# Altium schematic symbol library CUSTOM TNY290PG.SchLib: 175 symbols (part 1 of 3)
Pins are listed as number, name and electrical type; pins without a type are passive.

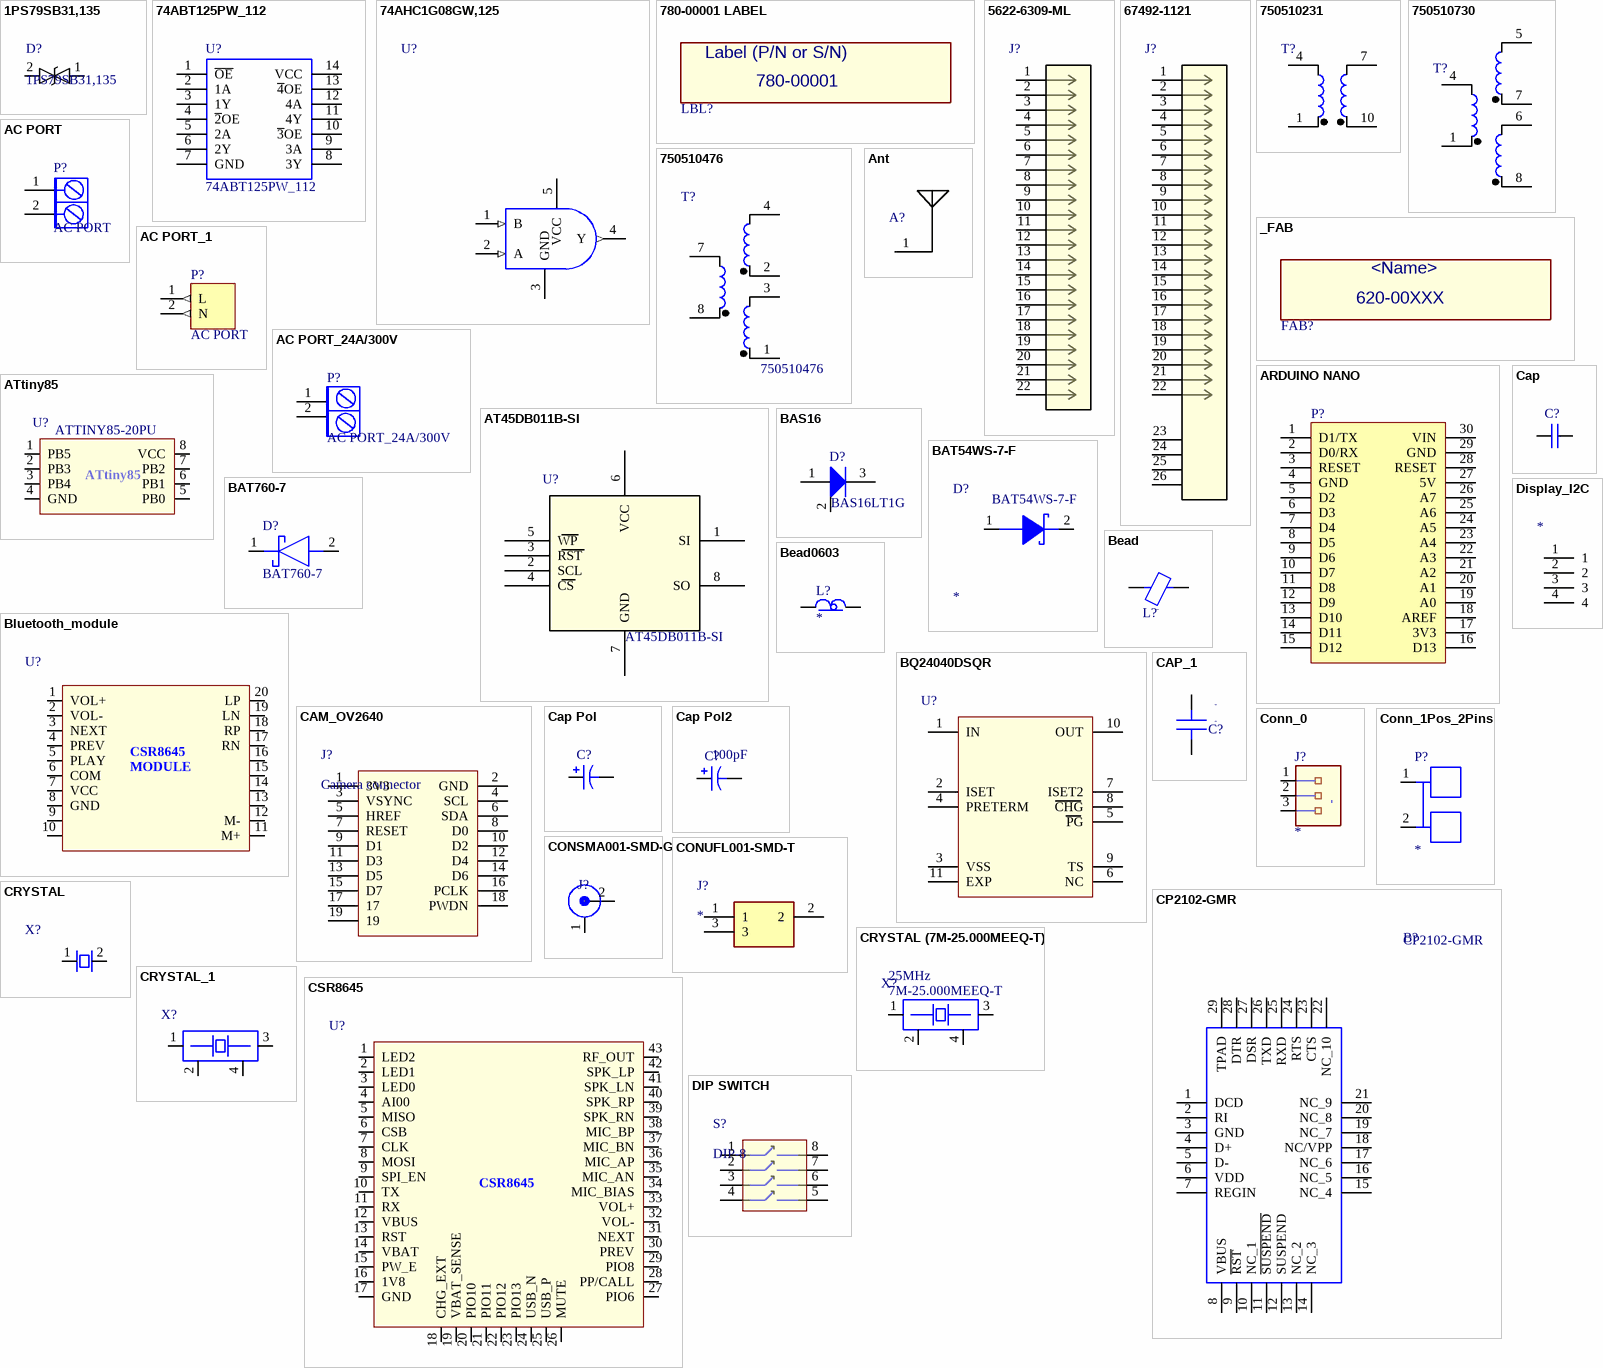
[diagram p0: symbols 1PS79SB31,135 to Display_I2C]

## 1PS79SB31,135
designator D?
Diode Schottky 30V 0.2A 2-Pin SOD-523 T/R; MF: Nexperia; MP: 1PS79SB31,135; SnapEDA_Link: https://www.snapeda.com/parts/1PS79SB31%2C135/Nexperia%20USA%20Inc./view-part/?ref=snap; Package: SOD-523 NXP Semiconductors; Digi-Key_Part_Number: 1PS79SB31,135-ND; Digi-Key_Purchase_URL: https://www.digikey.in/product-detail/en/nexperia-usa-inc/1PS79SB31,135/1PS79SB31,135-ND/1229079?utm_source=snapeda&utm_medium=aggregator&utm_campaign=symbol; Value: *
footprint SOD523
pins: 1 K, 2 A

## 74ABT125PW_112
designator U?
Buffers & Line Drivers QUAD BUFFER 3-S; Manufacturer_Name: Nexperia; Manufacturer_Part_Number: 74ABT125PW,112; Geometry.Height: 1.1mm; RS Part Number: *; RS Price/Stock: *; Mouser Part Number: 771-ABT125PW112; Mouser Price/Stock: https://www.mouser.com/Search/Refine.aspx?Keyword=771-ABT125PW112; Datasheet Link: https://assets.nexperia.com/documents/data-sheet/74ABT125.pdf
footprint 74ABT125PW
pins: 1 ~{OE}, 2 1A, 3 1Y, 4 ~{2}OE, 5 2A, 6 2Y, 7 GND, 8 3Y, 9 3A, 10 ~{3}OE, 11 4Y, 12 4A, 13 ~{4}OE, 14 VCC

## 74AHC1G08GW,125
designator U?  (value not drawn)
Logic IC - Gate NXP Semiconductors 74AHC1G08GW, 125 AND gate 74AHC TSSOP 5; Manufacturer: Nexperia; Supplier 1: Digi-Key; Manufacturer Part Number: 74AHC1G08GW,125; Stock 1: 41783; Pricing 1: 1=0.27, 10=0.223, 25=0.1872, 100=0.1184, 250=0.0914, 500=0.0779, 1000=0.053 (USD); Case/Package: SOT-353; Supplier Part Number 1: 1727-3148-1-ND
footprint SOT353
pins: 1 B (in), 2 A (in), 3 GND, 4 Y (out), 5 VCC (power)

## 780-00001 LABEL
designator LBL?, comment Label (P/N or S/N)  PartNumber: 780-00001
Label, blank, 1.25" x .25", High Temp Rated; Device: 780-00001

## 5622-6309-ML
designator J?
SATA CONNECTOR, PLUG, 22 POSITION, Connector Type:SATA; Gender:Male; Manufacturer 1: 3M; Manufacturer Part Number 1: 5622-6309-ML; Gender: Male; Max Current Rating: 1.5A; Number of Positions: 22; Insulation Resistance: 1GR; Number of Ports: 1; Connector Type: Plug,SATA; Pitch: 1.27mm; ComponentLink1URL: https://datasheet.ciiva.com/16651/0674921121-pcb-receptacles-16651858.pdf?src-supplier=Avnet+Europe; ComponentLink1Description: https://datasheet.ciiva.com/16651/0674921121-pcb-receptacles-16651858.pdf?src-supplier=Avnet+Europe; Supplier 1: Digi-Key; RoHS: Yes; Category: Connectors; Stock 1: 5747; Pricing 1: 1=2.88000, 10=2.76500, 25=2.53440, 50=2.41920, 100=2.30400, 250=2.01600, 500=1.95840, 1000=1.67040, 2500=1.55520 (USD); Mount: Straddle Mount,Edge; Housing Material: Thermoplastic; Contact Plating: Gold; Contact Material: Copper Alloy; Color: Black; Number of Terminals: 22; Housing Color: Black; Min Operating Temperature: -40°C; Max Operating Temperature: 85°C; Packaging: Tray; Termination: Solder; Orientation: Straight; Package Quantity: 1944; Current Rating: 1.5A; Number of Rows: 1; Number of Contacts: 22; Length: 45.77mm; Depth: 12mm; Flammability Rating: UL94 V-0; REACH SVHC: No SVHC; Lead Free: Lead Free; ComponentLink2URL: https://datasheet.ciiva.com/25617/0900766b80934e8c-25617710.pdf?src-supplier=RSComponents; ComponentLink2Description: https://datasheet.ciiva.com/25617/0900766b80934e8c-25617710.pdf?src-supplier=RSComponents; ComponentLink3URL: https://datasheet.ciiva.com/689/cd2109-689552.pdf?src-supplier=Digi-Key; ComponentLink3Description: https://datasheet.ciiva.com/689/cd2109-689552.pdf?src-supplier=Digi-Key; ComponentLink4URL: https://datasheet.ciiva.com/3955/mediawebserver3-3955586.pdf?src-supplier=Arrow; ComponentLink4Description: https://datasheet.ciiva.com/3955/mediawebserver3-3955586.pdf?src-supplier=Arrow; ComponentLink5URL: https://datasheet.ciiva.com/4570/cd2109-4570023.pdf?src-supplier=Mouser; ComponentLink5Description: https://datasheet.ciiva.com/4570/cd2109-4570023.pdf?src-supplier=Mouser; ComponentLink6URL: https://datasheet.ciiva.com/8015/cd2109-8015174.pdf?src-supplier=Element14; ComponentLink6Description: https://datasheet.ciiva.com/8015/cd2109-8015174.pdf?src-supplier=Element14; Supplier Part Number 1: 3M5555-ND
footprint 5622-6309-ML
pins: 1, 2, 3, 4, 5, 6, 7, 8, 9, 10, 11, 12, 13, 14, 15, 16, 17, 18, 19, 20, 21, 22

## 67492-1121
designator J?
Conn SATA RCP 15Power/7Signal POS 1.27mm Solder RA SMD 22 Terminal 1 Port Tray; Manufacturer 1: Molex; Manufacturer Part Number 1: 67492-1121; Connector Type: SMD/SMT; Number of Positions: 22; Max Voltage Rating (DC): 15V; Current Rating: 1.5A; Gender: Female; Glow Wire Compliant: Non-compliant; Supplier 1: Mouser; RoHS: Yes; Category: Headers and Wire Housings; Stock 1: 83; Pricing 1: 1=3.18000, 10=3.05000, 25=2.67000, 100=2.54000, 250=2.22000, 500=2.16000, 1000=1.84000, 2500=1.71000, 5000=1.65000 (USD); Mount: Surface Mount; Case/Package: SMD/SMT; Housing Material: Thermoplastic; Contact Plating: Gold; Contact Material: Copper Alloy; Color: Black; Min Operating Temperature: -35°C; Max Operating Temperature: 85°C; Termination: Solder; Orientation: Right Angle; Package Quantity: 840; Packaging: Tray; Number of Rows: 1; Number of Circuits: 22; Voltage Rating (DC): 15V; Pitch: 1.27mm; Radiation Hardening: No; ComponentLink1URL: https://datasheet.ciiva.com/16651/0674921121-pcb-receptacles-16651858.pdf?src-supplier=Avnet+Europe; ComponentLink1Description: https://datasheet.ciiva.com/16651/0674921121-pcb-receptacles-16651858.pdf?src-supplier=Avnet+Europe; Supplier Part Number 1: 538-67492-1121
footprint 67492-1121
pins: 1, 2, 3, 4, 5, 6, 7, 8, 9, 10, 11, 12, 13, 14, 15, 16, 17, 18, 19, 20, 21, 22, 23, 24, 25, 26

## 750510231
designator T?  (value not drawn)
Manufacturer: Wurth Electronics; Manufacturer Part Number: 750510231; Supplier 1: Mouser; Stock 1: 346; Pricing 1: 1=3.43, 10=3.21, 50=2.89, 100=2.66, 250=2.39, 500=2.15, 1000=2.15, 10000=2.15 (USD); Packaging: Tray; Package Quantity: 650; ComponentLink1URL: http://www.mouser.com/ds/2/445/750510231-465484.pdf?src-supplier=Mouser; ComponentLink1Description: http://www.mouser.com/ds/2/445/750510231-465484.pdf?src-supplier=Mouser; Supplier Part Number 1: 710-750510231
footprint L14_W14_H13.46
pins: 1 5, 4, 7 5, 10 6

## 750510476
designator T?  Manufacturer Part Number: 750510476  (hidden comment: *)
Manufacturer: Wurth Electronics; Shielding: Unshielded; Inductance: 870uH; DC Resistance (DCR): 85mR; Supplier 1: Digi-Key; Stock 1: 881; Pricing 1: 1=5.86, 10=5.782, 50=5.421, 100=4.879, 500=4.337 (USD); Mount: Through Hole; Min Operating Temperature: -40°C; Max Operating Temperature: 125°C; Packaging: Tray; Termination: Pin; Length: 19.8mm; Height: 10.16mm; Width: 19.69mm; Height - Seated (Max): 10.16mm; ComponentLink1URL: http://www.mouser.com/ds/2/445/750510476-265876.pdf?src-supplier=Mouser; ComponentLink1Description: http://www.mouser.com/ds/2/445/750510476-265876.pdf?src-supplier=Mouser; ComponentLink2URL: http://katalog.we-online.de/pbs/datasheet/750510476.pdf?src-supplier=Digi-Key; ComponentLink2Description: http://katalog.we-online.de/pbs/datasheet/750510476.pdf?src-supplier=Digi-Key; Supplier Part Number 1: 1297-1074-ND
footprint L13.72_W19.8_H10.16
pins: 1, 2, 3, 4, 7, 8

## 750510730
designator T?  (value not drawn)
Manufacturer: Wurth Electronics Midcom; Manufacturer Part Number: 750510730; Inductance: 1uH; Turns Ratio: 1:1; Supplier 1: Digi-Key; Stock 1: 0; Pricing 1: 140=3.696, 280=3.36 (USD); Mount: Surface Mount; Packaging: Tape and Reel; ComponentLink1URL: https://katalog.we-online.de/ctm/datasheet/750510730.pdf?src-supplier=Digi-Key; ComponentLink1Description: https://katalog.we-online.de/ctm/datasheet/750510730.pdf?src-supplier=Digi-Key; Supplier Part Number 1: 1297-1203-2-ND
footprint L13.97_W15.4_H13.2
pins: 1 5, 4, 5, 6, 7, 8 6

## _FAB
designator FAB?, comment <Name>  PartNumber: 620-00XXX

## AC PORT
designator P?
Header, 2-Pin; Manufacturer Part Number: Screw Terminal; Value: 2 PIN; Case/Package: 5mm PITCH TH
footprint HDR1X2 (Connector; Header; 2 Position)
signal-integrity model Connector
pins: 1 L, 2 N

## AC PORT_1
designator P?, comment AC PORT
Header, 2-Pin; LatestRevisionDate: 17-Jul-2002; LatestRevisionNote: Re-released for DXP Platform.; Publisher: Altium Limited
footprint HDR1X2 (Connector; Header; 2 Position)
signal-integrity model Connector
pins: 1 L (out), 2 N (out)

## AC PORT_24A/300V
designator P?
Header, 2-Pin; LatestRevisionDate: 17-Jul-2002; LatestRevisionNote: Re-released for DXP Platform.; Publisher: Altium Limited
footprint AC PORT 24a/300V (Connector; Header; 2 Position)
pins: 1, 2

## Ant
designator A?  (value not drawn)
footprint ant
pins: 1 Ant

## ARDUINO NANO
designator P?
Header, 15-Pin, Dual row; Manufacturer: Seeed Studio; Manufacturer Part Number: 102010019; Evaluation Kit: Yes; Core Architecture: AVR; Supplier 1: Digi-Key; Stock 1: 0; Supplier Part Number 1: 102010019-ND
signal-integrity model Connector
footprint ARDUINO NANO (Connector; Header; 15x2 Position)
pins: 1 D1/TX, 2 D0/RX, 3 RESET, 4 GND, 5 D2, 6 D3, 7 D4, 8 D5, 9 D6, 10 D7, 11 D8, 12 D9, 13 D10, 14 D11, 15 D12, 16 D13, 17 3V3, 18 AREF, 19 A0, 20 A1, 21 A2, 22 A3, 23 A4, 24 A5, 25 A6, 26 A7, 27 5V, 28 RESET, 29 GND, 30 VIN

## AT45DB011B-SI
designator U?  Manufacturer Part Number: AT45DB011B-SI
IC FLASH 1M SPI 20MHZ 8SOIC; Manufacturer: Microchip / Atmel; Interface: SPI,Serial; Max Supply Voltage: 3.6V; Min Supply Voltage: 2.7V; Access Time: 7ns; Memory Type: NOR,FLASH,DataFLASH; Memory Size: 264B; Data Bus Width: 8b; Supplier 1: Digi-Key; Stock 1: 0; Case/Package: 8-SOIC; Number of Pins: 8; Min Operating Temperature: -40°C; Max Operating Temperature: 85°C; Package Quantity: 95; Packaging: Rail/Tube; Frequency: 20MHz; Max Frequency: 20MHz; Lead Free: Contains Lead; Supplier Part Number 1: AT45DB011B-SI-ND
footprint 8-soic
pins: 1 SI, 2 SCL, 3 RST, 4 CS, 5 WP, 6 VCC (power), 7 GND (power), 8 SO

## ATtiny85
designator U?  Manufacturer Part Number: ATTINY85-20PU
MCU 8-bit ATtiny AVR RISC 8KB Flash 3.3V/5V 8-Pin PDIP W; Manufacturer 1: Microchip / Atmel; Number of I/Os: 6; Frequency: 20MHz; Oscillator Type: Internal; Peripherals: Brown-out Detect/Reset,POR,PWM,WDT; Data Bus Width: 8b; Min Supply Voltage: 2.7V; Max Supply Voltage: 5.5V; RAM Size: 512B; Number of Timers/Counters: 2; Interface: SPI; Watchdog Timer: Yes; Number of ADC Channels: 4; Number of SPI Channels: 1; Access Time: 20us; Supplier 1: Digi-Key; RoHS: Yes; Category: Microcontrollers; Stock 1: 6190; Pricing 1: 1=1.20000, 25=1.10000, 100=1.00000 (USD); Mount: Through Hole; Case/Package: DIP-8; Number of Pins: 8; Contact Plating: Tin,Matte; Min Operating Temperature: -40°C; Max Operating Temperature: 85°C; Packaging: Rail/Tube; Memory Type: FLASH; Memory Size: 8KB; Core Architecture: AVR; Package Quantity: 50; Max Frequency: 20MHz; Number of Programmable I/O: 6; Number of PWM Channels: 6; Number of I2C Channels: 1; Number of UART Channels: 1; Termination: Through Hole; Length: 10.16mm; Height: 0.195inch; Width: 0.28inch; Radiation Hardening: No; Lead Free: Lead Free; REACH SVHC: No SVHC; ComponentLink1URL: https://datasheet.ciiva.com/28653/1693899-28653824.pdf?src-supplier=Element14; ComponentLink1Description: https://datasheet.ciiva.com/28653/1693899-28653824.pdf?src-supplier=Element14; ComponentLink2URL: https://datasheet.ciiva.com/20168/73-5122-20168321.pdf?src-supplier=Rapid+Electronics; ComponentLink2Description: https://datasheet.ciiva.com/20168/73-5122-20168321.pdf?src-supplier=Rapid+Electronics; ComponentLink3URL: https://datasheet.ciiva.com/19457/2151312-19457156.pdf?src-supplier=Jameco; ComponentLink3Description: https://datasheet.ciiva.com/19457/2151312-19457156.pdf?src-supplier=Jameco; ComponentLink4URL: https://datasheet.ciiva.com/15213/getdatasheetpartid-226075-15213319.pdf?src-supplier=Verical; ComponentLink4Description: https://datasheet.ciiva.com/15213/getdatasheetpartid-226075-15213319.pdf?src-supplier=Verical; ComponentLink5URL: https://datasheet.ciiva.com/3203/doc2586-3203149.pdf?src-supplier=Avnet; ComponentLink5Description: https://datasheet.ciiva.com/3203/doc2586-3203149.pdf?src-supplier=Avnet; Supplier Part Number 1: ATTINY85-20PU-ND
footprint DIP-8 (DIP; 8 Leads; Row Spacing 7.62 mm; Pitch 2.54 mm)
pins: 1 PB5, 2 PB3, 3 PB4, 4 GND, 5 PB0, 6 PB1, 7 PB2, 8 VCC

## BAS16
designator D?  Manufacturer Part Number: BAS16LT1G
Manufacturer: ON Semiconductor; Forward Current: 200mA; Peak Reverse Current: 1uA; Max Surge Current: 500mA; Recovery Time: 6ns; Forward Voltage: 1.25V; Max Repetitive Reverse Voltage (Vrrm): 75V; Power Dissipation: 300mW; Element Configuration: Single; Polarity: Standard; Capacitance: 2pF; ComponentLink1Description: Manufacturer Link; ComponentLink1URL: http://www.fairchildsemi.com/; ComponentLink2Description: Datasheet; ComponentLink2URL: http://www.fairchildsemi.com/ds/1N%2F1N4001.pdf; Supplier 1: Digi-Key; Stock 1: 1889118; Pricing 1: 1=0.11, 10=0.1, 100=0.0545, 500=0.0335, 1000=0.0229 (USD); Case/Package: SOT-23-3; Number of Pins: 3; Contact Plating: Tin,Matte; Min Operating Temperature: -55°C; Max Operating Temperature: 150°C; Package Quantity: 1; Packaging: Tape and Reel; Max Reverse Leakage Current: 1uA; Average Rectified Current: 200mA; Reverse Recovery Time: 6ns; Max Reverse Voltage (DC): 75V; Peak Non-Repetitive Surge Current: 500mA; Max Forward Surge Current (Ifsm): 500mA; Voltage Rating (DC): 75V; Current Rating: 200mA; Output Current: 200mA; Length: 0.119inch; Height: 0.04inch; Width: 0.055inch; Radiation Hardening: No; Lead Free: Lead Free; Halogen Free: Halogen Free; REACH SVHC: No SVHC; ComponentLink3URL: http://www.mouser.com/ds/2/308/BAS16LT1-D-103448.pdf?src-supplier=Mouser; ComponentLink3Description: http://www.mouser.com/ds/2/308/BAS16LT1-D-103448.pdf?src-supplier=Mouser; ComponentLink4URL: http://www.onsemi.com/pub/Collateral/BAS16LT1-D.PDF?src-supplier=Digi-Key; ComponentLink4Description: http://www.onsemi.com/pub/Collateral/BAS16LT1-D.PDF?src-supplier=Digi-Key; ComponentLink5URL: http://www.farnell.com/datasheets/1910407.pdf?src-supplier=Element14; ComponentLink5Description: http://www.farnell.com/datasheets/1910407.pdf?src-supplier=Element14; ComponentLink6URL: http://www.onsemi.com/pub/Collateral/BAS16LT1-D.PDF?src-supplier=Avnet; ComponentLink6Description: http://www.onsemi.com/pub/Collateral/BAS16LT1-D.PDF?src-supplier=Avnet; ComponentLink7URL: http://www.onsemi.com/pub/Collateral/BAS16LT1-D.PDF?src-supplier=Future+Electronics; ComponentLink7Description: http://www.onsemi.com/pub/Collateral/BAS16LT1-D.PDF?src-supplier=Future+Electronics; ComponentLink8URL: http://www.farnell.com/datasheets/1708231.pdf?src-supplier=Element14; ComponentLink8Description: http://www.farnell.com/datasheets/1708231.pdf?src-supplier=Element14; ComponentLink9URL: http://www.onsemi.com/pub/Collateral/BAS16LT1-D.PDF?src-supplier=Avnet+Europe; ComponentLink9Description: http://www.onsemi.com/pub/Collateral/BAS16LT1-D.PDF?src-supplier=Avnet+Europe; Supplier Part Number 1: BAS16LT1GOSCT-ND
simulation model 1N4001 (DIODE)
signal-integrity model 1N4001
footprint SOT23_MMB3904
pins: 1, 2, 3

## BAT54WS-7-F
designator D?  Manufacturer Part Number: BAT54WS-7-F
Manufacturer: Multicomp; Max Repetitive Reverse Voltage (Vrrm): 30V; Forward Current: 200mA; Reverse Recovery Time: 5ns; Element Configuration: Single; Forward Voltage: 1V; Max Forward Surge Current (Ifsm): 600mA; Supplier 1: Newark; Stock 1: 3436; Pricing 1: 1=0.147, 10=0.121, 100=0.045, 1000=0.031 (USD); Number of Pins: 2; Max Operating Temperature: 125°C; Packaging: Cut Tape; REACH SVHC: Unknown; Supplier Part Number 1: 65W8470
footprint SOD-323
pins: 1 A1, 2 A2

## BAT760-7
designator D?
Diode Schottky 30V 1A 2Pin SOD323 Diodes Inc BAT760-7, SMT Schottky Diode, 30V 1A, 2-Pin SOD-323; Manufacturer_Name: Diodes Inc.; Allied_Number: 70437639; Geometry.Height: 1.2mm; Manufacturer_Part_Number: BAT760-7; RS Part Number: 7513427P; RS Price/Stock: http://uk.rs-online.com/web/p/products/7513427P; Allied Price/Stock: https://www.alliedelec.com/diodes-inc-bat760-7/70437639/; Mouser Part Number: 621-BAT760-7; Mouser Price/Stock: https://www.mouser.com/Search/Refine.aspx?Keyword=621-BAT760-7; Datasheet Link: https://www.diodes.com/assets/Datasheets/ds30498.pdf
footprint SOD2513X120N
pins: 1 K, 2 A

## Bead
designator L?, comment -
pins: 1, 2

## Bead0603
designator L?
footprint 0603
pins: 1, 2

## Bluetooth_module
designator U?
pins: 1 VOL+, 2 VOL-, 3 NEXT, 4 PREV, 5 PLAY, 6 COM, 7 VCC, 8 GND, 9, 10, 11 M+, 12 M-, 13, 14, 15, 16, 17 RN, 18 RP, 19 LN, 20 LP
text: CSR8645; MODULE

## BQ24040DSQR
designator U?  (value not drawn)
IC BATT CHG LI-ION 1 CELL 10SON; Manufacturer: Texas Instruments; Manufacturer Part Number: BQ24040DSQR; Output Current: 800mA; Max Power Dissipation: 1.66W; Output Voltage: 4.2V; Min Supply Voltage: 4.75V; Max Supply Voltage: 28V; Min Input Voltage: 3.5V; Number of Cells: 1; Operating Supply Current: 800uA; Max Charge Current: 1A; Fault Protection: Over Voltage,Over Temperature,Short Circuit; Supplier 1: Digi-Key; Stock 1: 20950; Pricing 1: 1=1.26, 10=1.124, 25=1.0672, 100=0.8194, 250=0.7241, 500=0.686, 1000=0.5335 (USD); Number of Pins: 10; Contact Plating: Gold; Min Operating Temperature: -40°C; Max Operating Temperature: 85°C; Packaging: Tape and Reel; Package Quantity: 3000; Battery Pack Voltage: 4.2V; REACH SVHC: No SVHC; Lead Free: Lead Free; ComponentLink1URL: http://www.ti.com/lit/pdf/slyt420?src-supplier=Digi-Key; ComponentLink1Description: http://www.ti.com/lit/pdf/slyt420?src-supplier=Digi-Key; ComponentLink2URL: http://www.ti.com/general/docs/suppproductinfo.tsp?distId=10&gotoUrl=http%3A%2F%2Fwww.ti.com%2Flit%2Fgpn%2Fbq24040&src-supplier=Digi-Key; ComponentLink2Description: http://www.ti.com/general/docs/suppproductinfo.tsp?distId=10&gotoUrl=http%3A%2F%2Fwww.ti.com%2Flit%2Fgpn%2Fbq24040&src-supplier=Digi-Key; ComponentLink3URL: http://datasheet.iiic.cc/texas_instruments/BQ24040DSQR.pdf?src-supplier=IIIC; ComponentLink3Description: http://datasheet.iiic.cc/texas_instruments/BQ24040DSQR.pdf?src-supplier=IIIC; Supplier Part Number 1: 296-37142-1-ND
footprint 10-WFDFN
pins: 1 IN, 2 ISET, 3 VSS, 4 PRETERM, 5 PG, 6 NC, 7 ISET2, 8 CHG, 9 TS, 10 OUT, 11 EXP

## CAM_OV2640
designator J?, comment Camera connector
Camera connector TH
pins: 1 3V3, 2 GND, 3 VSYNC, 4 SCL, 5 HREF, 6 SDA, 7 RESET, 8 D0, 9 D1, 10 D2, 11 D3, 12 D4, 13 D5, 14 D6, 15 D7, 16 PCLK, 17, 18 PWDN, 19

## Cap
designator C?
Ceramic Capacitor; Manufacturer Part Number: *; Value: *; Case/Package: *
simulation model CAP (Capacitor)
signal-integrity model Cap Pol
pins: 1, 2
1 alternate drawing of the same symbol

## Cap Pol
designator C?
simulation model CAP (Capacitor)
signal-integrity model Cap Pol
pins: 1, 2
1 alternate drawing of the same symbol

## Cap Pol2
designator C?  value 100pF
Polarized Capacitor (Axial); Published: 8-Jun-2000; LatestRevisionDate: 17-Jul-2002; LatestRevisionNote: Re-released for DXP Platform.; PackageReference: POLAR0.8; Publisher: Altium Limited; PackageDescription: Polarized Capacitor; 2 Leads
footprint POLAR0.8 (Polarized Capacitor; 2 Leads)
simulation model CAP (Capacitor)
signal-integrity model Cap Pol
pins: 1, 2
1 alternate drawing of the same symbol

## CAP_1
designator C?, comment -
Tolerance: -; Technology: -; Voltage: -
pins: 1, 2

## Conn_0
designator J?
pins: 1, 2, 3

## Conn_1Pos_2Pins
designator P?
pins: 1, 2

## CONSMA001-SMD-G
designator J?
Manufacturer: Linx; Manufacturer Part Number: CONSMA001-SMD-G; Plating: Gold; Body Material: Brass; Dielectric Material: PTFE; Impedance: 50R; Gender: Female; Connector Type: SMA,Socket; Supplier 1: Digi-Key; Stock 1: 3099; Pricing 1: 1=3.12, 25=2.82, 100=2.69, 500=2.616 (USD); Mount: Surface Mount; Case/Package: SMA; Contact Plating: Gold; Contact Material: Copper; Body Plating: Gold; Housing Color: Gold; Shell Plating: Gold; Min Operating Temperature: -65°C; Max Operating Temperature: 165°C; Package Quantity: 100; Packaging: Bulk; Fastening Type: Threaded; Termination: Solder; Orientation: Vertical; Lead Free: Lead Free; ComponentLink1URL: http://www.mouser.com/ds/2/238/consma001-smd-21851.pdf?src-supplier=Mouser; ComponentLink1Description: http://www.mouser.com/ds/2/238/consma001-smd-21851.pdf?src-supplier=Mouser; ComponentLink2URL: https://media.digikey.com/pdf/Data%20Sheets/Linx%20Technologies%20PDFs/RFConnector_Overview_Guide_2-19-15.pdf?src-supplier=Digi-Key; ComponentLink2Description: https://media.digikey.com/pdf/Data%20Sheets/Linx%20Technologies%20PDFs/RFConnector_Overview_Guide_2-19-15.pdf?src-supplier=Digi-Key; Supplier Part Number 1: CONSMA001-SMD-G-ND
footprint CONSMA001SMDG
pins: 1, 2

## CONUFL001-SMD-T
designator J?
Connector; Manufacturer: Linx; Manufacturer Part Number: CONUFL001-SMD-T; Body Material: Copper Alloy; Body Plating: Gold; Dielectric Material: Polymer; Connector Type: Male Pin; Impedance: 50R; Max Frequency: 6GHz; Number of Ports: 1; Supplier 1: Digi-Key; Stock 1: 22500; Pricing 1: 2500=0.34, 12500=0.2976 (USD); Mount: Surface Mount; Contact Plating: Gold; Contact Material: Brass; Housing Color: White; Min Operating Temperature: -40°C; Max Operating Temperature: 90°C; Fastening Type: Snap; Packaging: Tape and Reel; Termination: Solder; ComponentLink1URL: https://media.digikey.com/pdf/Data%20Sheets/Linx%20Technologies%20PDFs/CONUFL001-SMD_T_Dwg_RevB_5-15-17.pdf?src-supplier=Digi-Key; ComponentLink1Description: https://media.digikey.com/pdf/Data%20Sheets/Linx%20Technologies%20PDFs/CONUFL001-SMD_T_Dwg_RevB_5-15-17.pdf?src-supplier=Digi-Key; Supplier Part Number 1: CONUFL001-SMD-TTR-ND
footprint CONUFL001-SMD
pins: 1, 2, 3

## CP2102-GMR
designator B?
I/O Controller Interface IC USB-TO-UART BRIDGE, qfn-28; Manufacturer_Name: Silicon Labs; Geometry.Height: 1mm; Manufacturer_Part_Number: CP2102-GMR; RS Part Number: *; RS Price/Stock: *; Arrow Part Number: CP2102-GMR; Arrow Price/Stock: https://www.arrow.com/en/products/cp2102-gmr/silicon-labs; Datasheet Link: https://www.silabs.com/Support%20Documents/TechnicalDocs/CP2102-9.pdf
footprint QFN50P500X500X100-29N-D
pins: 1 DCD, 2 RI, 3 GND, 4 D+, 5 D-, 6 VDD, 7 REGIN, 8 VBUS, 9 ~{RST}, 10 NC_1, 11 ~{SUSPEND}, 12 SUSPEND, 13 NC_2, 14 NC_3, 15 NC_4, 16 NC_5, 17 NC_6, 18 NC/VPP, 19 NC_7, 20 NC_8, 21 NC_9, 22 NC_10, 23 CTS, 24 RTS, 25 RXD, 26 TXD, 27 DSR, 28 DTR, 29 TPAD

## CRYSTAL
designator X?
pins: 1, 2

## CRYSTAL (7M-25.000MEEQ-T)
designator X?  Frequency: 25MHz  Manufacturer Part Number: 7M-25.000MEEQ-T  (hidden comment: *)
25MHz ±10ppm Crystal 10pF 60 Ohms 4-SMD, No Lead; Manufacturer: TXC; ESR (Equivalent Series Resistance): 60R; Supplier 1: Digi-Key; Stock 1: 44630; Pricing 1: 1=1.35, 10=1.195, 50=1.1174, 100=0.9875, 500=0.9356, 1000=0.7796 (USD); Mount: Surface Mount; Case/Package: SMD/SMT; Number of Pins: 4; Min Operating Temperature: -20°C; Max Operating Temperature: 70°C; Frequency Tolerance: 10ppm; Load Capacitance: 10pF; Packaging: Tape and Reel; Package Quantity: 3000; Tolerance: 10ppm; Frequency Stability: 10ppm; Termination: SMD/SMT; Length: 3.2mm; Height: 0.031inch; Width: 0.098inch; Depth: 2.5mm; REACH SVHC: No SVHC; ComponentLink1URL: https://www.verical.com/server-webapp/html/getDatasheet?partID=757227&src-supplier=Verical; ComponentLink1Description: https://www.verical.com/server-webapp/html/getDatasheet?partID=757227&src-supplier=Verical; ComponentLink2URL: http://www.txccrystal.com/images/pdf/7m-accuracy.pdf?src-supplier=Digi-Key; ComponentLink2Description: http://www.txccrystal.com/images/pdf/7m-accuracy.pdf?src-supplier=Digi-Key; ComponentLink3URL: http://www.farnell.com/datasheets/1794111.pdf?src-supplier=Element14; ComponentLink3Description: http://www.farnell.com/datasheets/1794111.pdf?src-supplier=Element14; ComponentLink4URL: http://www.mouser.com/ds/2/417/7m-11184.pdf?src-supplier=Mouser; ComponentLink4Description: http://www.mouser.com/ds/2/417/7m-11184.pdf?src-supplier=Mouser; Supplier Part Number 1: 887-1326-1-ND
footprint XTAL_432-00011
pins: 1, 2, 3, 4

## CRYSTAL_1
designator X?
ComponentLink1URL: https://www.verical.com/server-webapp/html/getDatasheet?partID=757227&src-supplier=Verical; ComponentLink1Description: https://www.verical.com/server-webapp/html/getDatasheet?partID=757227&src-supplier=Verical; ComponentLink2URL: http://www.txccrystal.com/images/pdf/7m-accuracy.pdf?src-supplier=Digi-Key; ComponentLink2Description: http://www.txccrystal.com/images/pdf/7m-accuracy.pdf?src-supplier=Digi-Key; ComponentLink3URL: http://www.farnell.com/datasheets/1794111.pdf?src-supplier=Element14; ComponentLink3Description: http://www.farnell.com/datasheets/1794111.pdf?src-supplier=Element14; ComponentLink4URL: http://www.mouser.com/ds/2/417/7m-11184.pdf?src-supplier=Mouser; ComponentLink4Description: http://www.mouser.com/ds/2/417/7m-11184.pdf?src-supplier=Mouser
pins: 1, 2, 3, 4

## CSR8645
designator U?  (value not drawn)
pins: 1 LED2, 2 LED1, 3 LED0, 4 AI00, 5 MISO, 6 CSB, 7 CLK, 8 MOSI, 9 SPI_EN, 10 TX, 11 RX, 12 VBUS, 13 RST, 14 VBAT, 15 PW_E, 16 1V8, 17 GND, 18 CHG_EXT, 19 VBAT_SENSE, 20 PIO10, 21 PIO11, 22 PIO12, 23 PIO13, 24 USB_N, 25 USB_P, 26 MUTE, 27 PIO6, 28 PP/CALL, 29 PIO8, 30 PREV, 31 NEXT, 32 VOL-, 33 VOL+, 34 MIC_BIAS, 35 MIC_AN, 36 MIC_AP, 37 MIC_BN, 38 MIC_BP, 39 SPK_RN, 40 SPK_RP, 41 SPK_LN, 42 SPK_LP, 43 RF_OUT

## DIP SWITCH
designator S?, comment DIP-8
4 Way 2.54MM DIP switch; Manufacturer Part Number: Product Code 5841; Value: SUNROM; Case/Package: DIP-8
footprint DIP-8 SWITCH
pins: 1, 2, 3, 4, 5, 6, 7, 8

## Display_I2C
designator *  (value not drawn)
pins: 1, 2, 3, 4

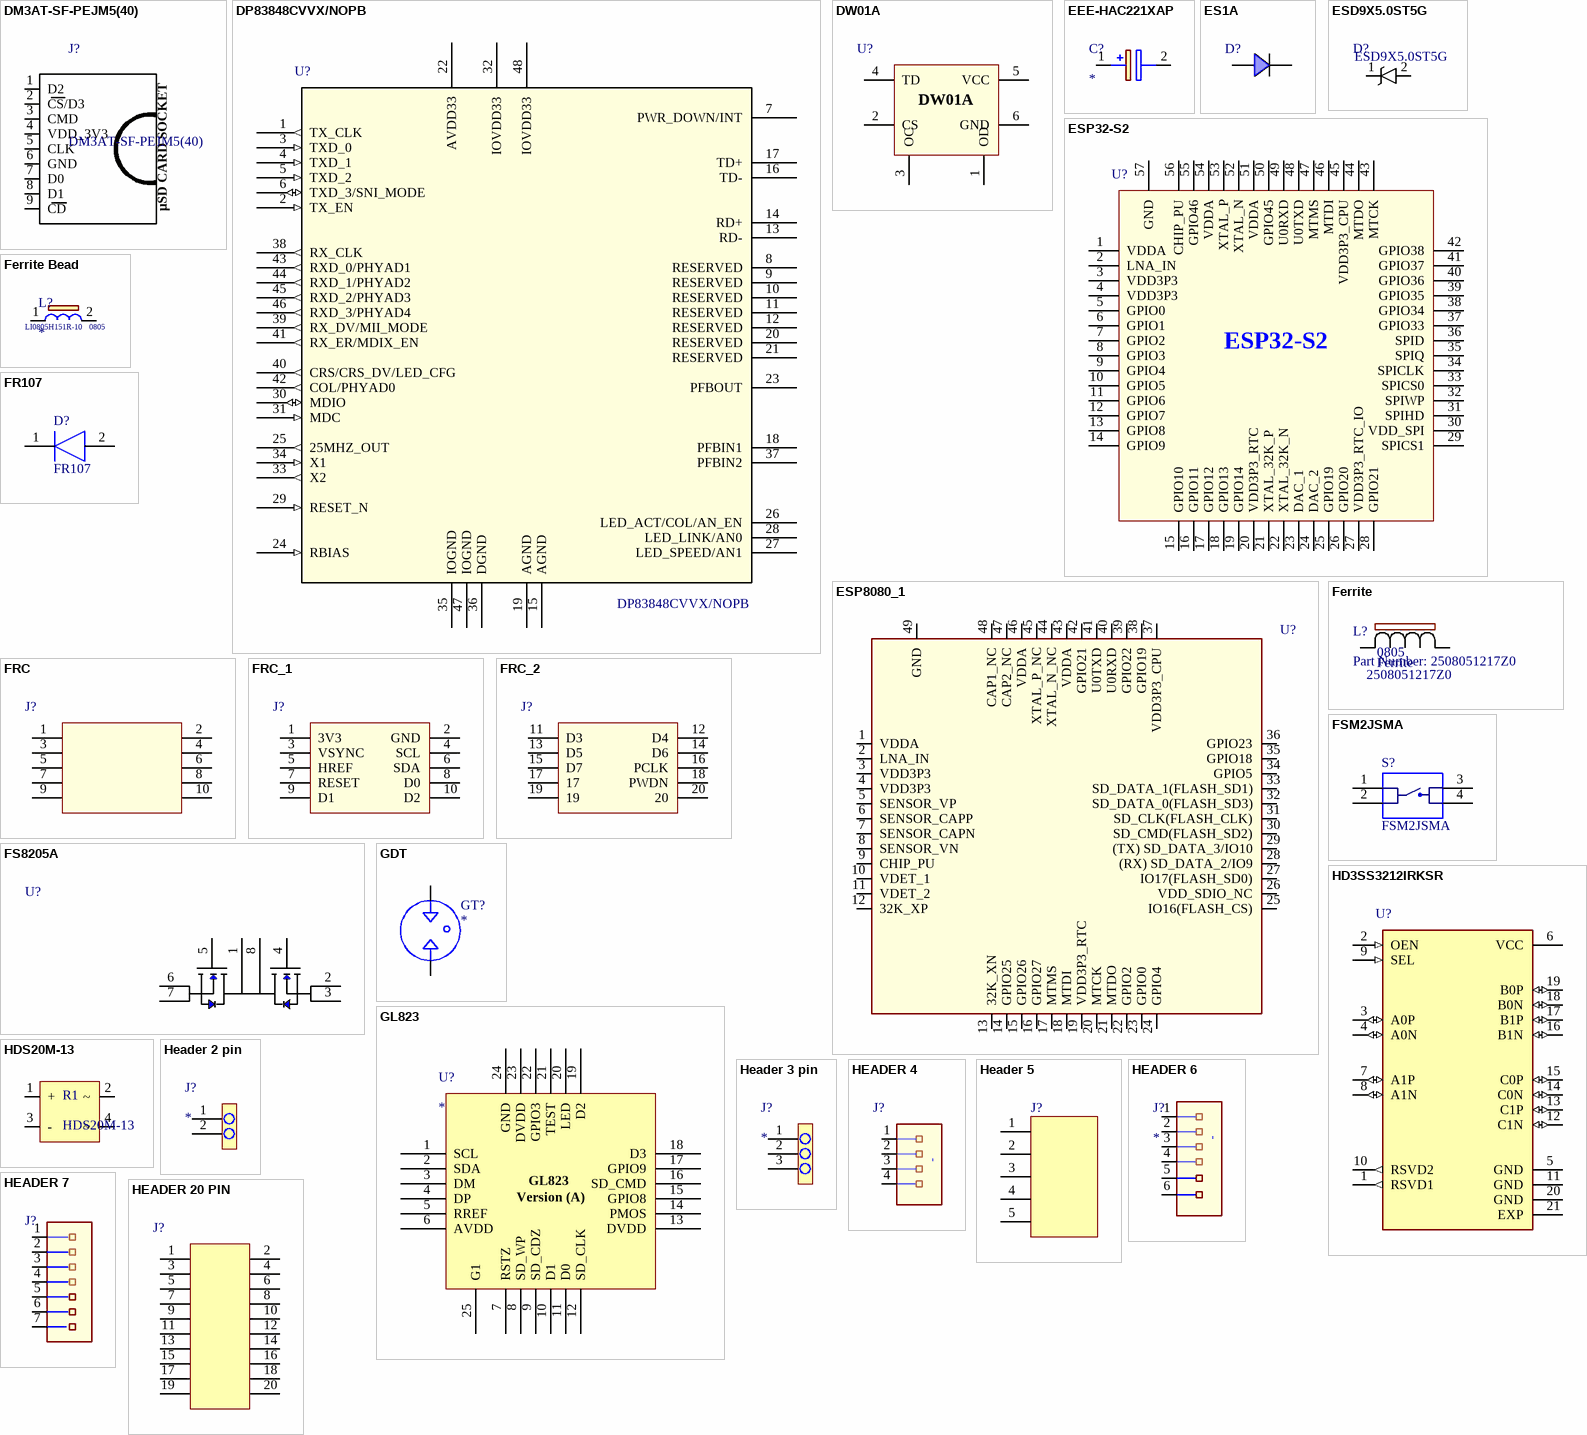
[diagram p1: symbols DM3AT-SF-PEJM5(40) to HEADER 20 PIN]

## DM3AT-SF-PEJM5(40)
designator J?
Micro,std mount SD Memory Card Micro,std mount SD Memory Card; Manufacturer_Name: Hirose; Allied_Number: R1050628; Manufacturer_Part_Number: DM3AT-SF-PEJM5(40); RS Part Number: 7079520P; RS Price/Stock: http://uk.rs-online.com/web/p/products/7079520P; Allied Price/Stock: http://www.alliedelec.com/hirose-electric-dm3at-sf-pejm5-40-/R1050628/; Mouser Part Number: 798-DM3AT-SF-PEJM540; Mouser Price/Stock: https://www.mouser.com/Search/Refine.aspx?Keyword=798-DM3AT-SF-PEJM540; Datasheet Link: http://uk.rs-online.com/web/p/products/7079520
footprint DM3AT-SF-PEJM5(40)
pins: 1 D2, 2 CS/D3, 3 CMD, 4 VDD_3V3, 5 CLK, 6 GND, 7 D0, 8 D1, 9 CD
text: μSD CARD SOCKET

## DP83848CVVX/NOPB
designator U?
IC TXRX ETHERNET 48LQFP; Manufacturer: TI National Semiconductor; Number of Channels: 1; Max Supply Voltage: 3.6V; Min Supply Voltage: 3V; Operating Supply Voltage: 3.3V; Nominal Supply Current: 92mA; Data Rate: 100Mbps; Max Power Dissipation: 267mW; Interface: Serial; Cable Length: 137m; Supplier 1: Digi-Key; Stock 1: 28934; Pricing 1: 1=5.16, 10=4.638, 100=3.8001, 500=3.2349 (USD); Mount: Surface Mount; Case/Package: 48-LQFP; Number of Pins: 48; Weight: 0.006409oz; Min Operating Temperature: 0°C; Max Operating Temperature: 70°C; Packaging: Tape and Reel; Package Quantity: 1000; Number of Transceivers: 1; Max Supply Current: 92mA; Length: 7mm; Height: 1.4mm; Width: 7mm; Radiation Hardening: No; REACH SVHC: No SVHC; Lead Free: Lead Free; ComponentLink1URL: http://www.ti.com/lit/ds/symlink/dp83848c.pdf?src-supplier=Digi-Key; ComponentLink1Description: http://www.ti.com/lit/ds/symlink/dp83848c.pdf?src-supplier=Digi-Key; ComponentLink2URL: http://www.ti.com/general/docs/lit/getliterature.tsp?genericPartNumber=DP83848YB&&fileType=pdf&src-supplier=Avnet; ComponentLink2Description: http://www.ti.com/general/docs/lit/getliterature.tsp?genericPartNumber=DP83848YB&&fileType=pdf&src-supplier=Avnet; ComponentLink3URL: http://www.ti.com/lit/gpn/dp83848c?src-supplier=Mouser; ComponentLink3Description: http://www.ti.com/lit/gpn/dp83848c?src-supplier=Mouser; ComponentLink4URL: http://www.farnell.com/datasheets/1668041.pdf?src-supplier=Element14; ComponentLink4Description: http://www.farnell.com/datasheets/1668041.pdf?src-supplier=Element14; Supplier Part Number 1: DP83848CVVX/NOPBCT-ND; Manufacturer Part Number: DP83848CVVX/NOPB
footprint 48LQFP
pins: 1 TX_CLK (out), 2 TX_EN (in), 3 TXD_0 (in), 4 TXD_1 (in), 5 TXD_2 (in), 6 TXD_3/SNI_MODE (io), 7 PWR_DOWN/INT, 8 RESERVED, 9 RESERVED, 10 RESERVED, 11 RESERVED, 12 RESERVED, 13 RD-, 14 RD+, 15 AGND (power), 16 TD-, 17 TD+, 18 PFBIN1, 19 AGND (power), 20 RESERVED, 21 RESERVED, 22 AVDD33 (power), 23 PFBOUT, 24 RBIAS (in), 25 25MHZ_OUT (out), 26 LED_ACT/COL/AN_EN, 27 LED_SPEED/AN1, 28 LED_LINK/AN0, 29 RESET_N (in), 30 MDIO (io), 31 MDC (in), 32 IOVDD33 (power), 33 X2 (out), 34 X1 (in), 35 IOGND (power), 36 DGND (power), 37 PFBIN2, 38 RX_CLK (out), 39 RX_DV/MII_MODE (out), 40 CRS/CRS_DV/LED_CFG (out), 41 RX_ER/MDIX_EN (out), 42 COL/PHYAD0 (out), 43 RXD_0/PHYAD1 (out), 44 RXD_1/PHYAD2 (out), 45 RXD_2/PHYAD3 (out), 46 RXD_3/PHYAD4 (out), 47 IOGND (power), 48 IOVDD33 (power)

## DW01A
designator U?  (value not drawn)
DW01A battery protection IC SOT-23-6; Case/Package: SOT-23-6; Manufacturer Part Number: DW01A
footprint SOT-23-6
pins: 1 OD, 2 CS, 3 OC, 4 TD, 5 VCC, 6 GND

## EEE-HAC221XAP
designator C?
Capacitor Polarised; Manufacturer: Panasonic; Manufacturer Part Number: EEE-HAC221XAP; Dielectric Material: Aluminium; Capacitance: 220uF; Voltage Rating: 16V; Tolerance: 20%; Life (Hours): 1000Hour; Ripple Current: 105mA; Leakage Current: 3uA; Dissipation Factor: 0.2%; Lead Length: 2.6mm; Supplier 1: Mouser; Stock 1: 7391; Pricing 1: 1=0.55, 10=0.313, 50=0.313, 100=0.211, 1000=0.14, 10000=0.107 (USD); Mount: Surface Mount,PCB; Case/Package: Radial; Number of Pins: 8; Contact Plating: Tin; Min Operating Temperature: -40°C; Max Operating Temperature: 105°C; Packaging: Tape and Reel; Package Quantity: 1; Voltage Rating (DC): 16V; Ripple Current (AC): 105mA; Termination: SMD/SMT; Voltage: 16V; Diameter: 6.3mm; Length: 7.7mm; Height: 7.7mm; Height - Seated (Max): 0.303inch; Lead Pitch: 1.8mm; Radiation Hardening: No; Lead Free: Lead Free; REACH SVHC: No SVHC; ComponentLink1URL: http://industrial.panasonic.com/www-data/pdf/ABA0000/ABA0000CE3.pdf?src-supplier=Avnet; ComponentLink1Description: http://industrial.panasonic.com/www-data/pdf/ABA0000/ABA0000CE3.pdf?src-supplier=Avnet; ComponentLink2URL: https://www.alliedelec.com/m/d/fd6499687c6391717d5741690c1b5331.pdf?src-supplier=Allied+Electronics; ComponentLink2Description: https://www.alliedelec.com/m/d/fd6499687c6391717d5741690c1b5331.pdf?src-supplier=Allied+Electronics; ComponentLink3URL: http://www.farnell.com/datasheets/2059978.pdf?src-supplier=Element14; ComponentLink3Description: http://www.farnell.com/datasheets/2059978.pdf?src-supplier=Element14; ComponentLink4URL: http://www.farnell.com/datasheets/2059978.pdf?src-supplier=Farnell; ComponentLink4Description: http://www.farnell.com/datasheets/2059978.pdf?src-supplier=Farnell; Supplier Part Number 1: 667-EEE-HAC221XAP
footprint EEE-HAC221XAP
pins: 1, 2

## ES1A
designator D?
DIODE GEN PURP 50V 1A SMA; Manufacturer: ON Semiconductor / Fairchild; Manufacturer Part Number: ES1A; Forward Voltage: 920mV; Peak Reverse Current: 5uA; Reverse Recovery Time: 15ns; Element Configuration: Single; Polarity: Standard; Capacitance: 7pF; Max Surge Current: 30A; Power Dissipation: 1.47W; Supplier 1: Digi-Key; Stock 1: 45000; Pricing 1: 7500=0.0787, 15000=0.0699, 37500=0.0656, 52500=0.0612 (USD); Mount: Surface Mount; Case/Package: SMA; Number of Pins: 2; Weight: 0.106g; Contact Plating: Tin,Matte; Min Operating Temperature: -50°C; Max Operating Temperature: 150°C; Packaging: Tape and Reel; Package Quantity: 7500; Max Repetitive Reverse Voltage (Vrrm): 50V; Forward Current: 1A; Voltage Rating (DC): 50V; Current Rating: 1A; Output Current: 1A; Recovery Time: 15ns; Average Rectified Current: 1A; Peak Non-Repetitive Surge Current: 30A; Max Forward Surge Current (Ifsm): 30A; Termination: SMD/SMT; Reverse Voltage: 50V; Max Reverse Voltage (DC): 50V; Length: 4.6mm; Height: 2.235mm; Width: 2.896mm; Radiation Hardening: No; REACH SVHC: No SVHC; Lead Free: Lead Free; ComponentLink1URL: http://www.mouser.com/ds/2/149/ES1A-183553.pdf?src-supplier=Mouser; ComponentLink1Description: http://www.mouser.com/ds/2/149/ES1A-183553.pdf?src-supplier=Mouser; ComponentLink2URL: http://www.farnell.com/datasheets/575529.pdf?src-supplier=Element14; ComponentLink2Description: http://www.farnell.com/datasheets/575529.pdf?src-supplier=Element14; ComponentLink3URL: http://www.fairchildsemi.com/ds/ES/ES1D.pdf?src-supplier=Avnet+Europe; ComponentLink3Description: http://www.fairchildsemi.com/ds/ES/ES1D.pdf?src-supplier=Avnet+Europe; ComponentLink4URL: http://www.fairchildsemi.com/datasheets/ES/ES1A.pdf?src-supplier=Digi-Key; ComponentLink4Description: http://www.fairchildsemi.com/datasheets/ES/ES1A.pdf?src-supplier=Digi-Key; ComponentLink5URL: https://www.fairchildsemi.com/package-drawings/DO/DO214AC.pdf?src-supplier=Digi-Key; ComponentLink5Description: https://www.fairchildsemi.com/package-drawings/DO/DO214AC.pdf?src-supplier=Digi-Key; Supplier Part Number 1: ES1AFSTR-ND
footprint es1a
pins: 1, 2

## ESD9X5.0ST5G
designator D?  Manufacturer Part Number: ESD9X5.0ST5G
12.3V Clamp 8.7A (8/20µs) Ipp Tvs Diode Surface Mount SOD-923; Manufacturer: ON Semiconductor; Direction: Unidirectional; Number of Elements: 1; Capacitance: 65pF; Operating Supply Voltage: 5V; Reverse Breakdown Voltage: 6.2V; Peak Pulse Power: 107W; Power Line Protection: No; ESD Protection: Yes; Test Current: 1mA; Max Reverse Leakage Current: 1uA; Max Power Dissipation: 150mW; Element Configuration: Single; Supplier 1: Digi-Key; RoHS: Yes; Category: ESD and Circuit Protection ICs; Stock 1: 835133; Pricing 1: 1=0.14000, 10=0.12700, 25=0.12120, 100=0.05340, 250=0.05120, 500=0.04190, 1000=0.02910, 2500=0.02542 (USD); Case/Package: SOD-923-2; Number of Pins: 2; Contact Plating: Tin,Matte; Min Operating Temperature: -55°C; Max Operating Temperature: 150°C; Packaging: Tape and Reel; Package Quantity: 1; Max Surge Current: 8.7A; Number of Unidirectional Channels: 1; Reverse Standoff Voltage: 5V; Min Breakdown Voltage: 6.2V; Clamping Voltage: 12.3V; Breakdown Voltage: 6.2V; Number of Channels: 1; Polarity: Unidirectional; Termination: SMD/SMT; Working Voltage: 5V; Leakage Current: 1uA; Max Breakdown Voltage: 6.2V; Peak Pulse Current: 8.7A; Number of Lines: 1; Composition: Zener; Length: 0.8mm; Height: 0.4mm; Width: 0.65mm; Depth: 0.6mm; Radiation Hardening: No; Lead Free: Lead Free; REACH SVHC: No SVHC; Halogen Free: Halogen Free; ComponentLink1URL: https://datasheet.ciiva.com/30478/0900766b812769b5-30478676.pdf?src-supplier=RSComponents; ComponentLink1Description: https://datasheet.ciiva.com/30478/0900766b812769b5-30478676.pdf?src-supplier=RSComponents; ComponentLink2URL: https://datasheet.ciiva.com/25958/esd9x3-3st5g-d-25958458.pdf?src-supplier=Avnet+Europe; ComponentLink2Description: https://datasheet.ciiva.com/25958/esd9x3-3st5g-d-25958458.pdf?src-supplier=Avnet+Europe; ComponentLink3URL: https://datasheet.ciiva.com/1219/1748783-1219324.pdf?src-supplier=Newark; ComponentLink3Description: https://datasheet.ciiva.com/1219/1748783-1219324.pdf?src-supplier=Newark; ComponentLink4URL: https://datasheet.ciiva.com/3304/esd9x3-3st5g-d-3304012.pdf?src-supplier=Avnet; ComponentLink4Description: https://datasheet.ciiva.com/3304/esd9x3-3st5g-d-3304012.pdf?src-supplier=Avnet; ComponentLink5URL: https://datasheet.ciiva.com/339/esd9x3-3st5g-d-339709.pdf?src-supplier=Digi-Key; ComponentLink5Description: https://datasheet.ciiva.com/339/esd9x3-3st5g-d-339709.pdf?src-supplier=Digi-Key; ComponentLink6URL: https://datasheet.ciiva.com/16215/esd9x3-3st5g-d-16215149.pdf?src-supplier=Future+Electronics; ComponentLink6Description: https://datasheet.ciiva.com/16215/esd9x3-3st5g-d-16215149.pdf?src-supplier=Future+Electronics; ComponentLink7URL: https://datasheet.ciiva.com/339/esd9x3-3st5g-d-339710.pdf?src-supplier=Digi-Key; ComponentLink7Description: https://datasheet.ciiva.com/339/esd9x3-3st5g-d-339710.pdf?src-supplier=Digi-Key; ComponentLink8URL: https://datasheet.ciiva.com/339/esd9x3-3st5g-d-339711.pdf?src-supplier=Digi-Key; ComponentLink8Description: https://datasheet.ciiva.com/339/esd9x3-3st5g-d-339711.pdf?src-supplier=Digi-Key; Supplier Part Number 1: ESD9X5.0ST5GOSCT-ND
footprint SOD-923
pins: 1 K, 2 A

## ESP32-S2
designator U?  (value not drawn)
WiFi 802.11b/g/n Transceiver Module 2.4GHz; Case/Package: 56-VFQFN; Manufacturer Part Number: ESP32-S2; Value: *
footprint QFN56-7x7mm
pins: 1 VDDA, 2 LNA_IN, 3 VDD3P3, 4 VDD3P3, 5 GPIO0, 6 GPIO1, 7 GPIO2, 8 GPIO3, 9 GPIO4, 10 GPIO5, 11 GPIO6, 12 GPIO7, 13 GPIO8, 14 GPIO9, 15 GPIO10, 16 GPIO11, 17 GPIO12, 18 GPIO13, 19 GPIO14, 20 VDD3P3_RTC, 21 XTAL_32K_P, 22 XTAL_32K_N, 23 DAC_1, 24 DAC_2, 25 GPIO19, 26 GPIO20, 27 VDD3P3_RTC_IO, 28 GPIO21, 29 SPICS1, 30 VDD_SPI, 31 SPIHD, 32 SPIWP, 33 SPICS0, 34 SPICLK, 35 SPIQ, 36 SPID, 37 GPIO33, 38 GPIO34, 39 GPIO35, 40 GPIO36, 41 GPIO37, 42 GPIO38, 43 MTCK, 44 MTDO, 45 VDD3P3_CPU, 46 MTDI, 47 MTMS, 48 U0TXD, 49 U0RXD, 50 GPIO45, 51 VDDA, 52 XTAL_N, 53 XTAL_P, 54 VDDA, 55 GPIO46, 56 CHIP_PU, 57 GND

## ESP8080_1
designator U?
ESP32 Wifi Bluetooth,4MByte Flash; Manufacturer 1: Espressif Systems; Manufacturer Part Number: ESP32-PICO-D4; Interface: I2C,SPI,GPIO,PWM,SDIO,UART; Frequency: 2.5GHz; Data Rate: 150Mbps; Sensitivity: -98.4dBm; Memory Size: 4MB; ComponentLink1URL: https://www.espressif.com/sites/default/files/documentation/esp32-pico-d4_datasheet_en.pdf?src-supplier=Digi-Key; ComponentLink1Description: https://www.espressif.com/sites/default/files/documentation/esp32-pico-d4_datasheet_en.pdf?src-supplier=Digi-Key; Supplier 1: Digi-Key; RoHS: No; Stock 1: 1598; Pricing 1: 1=4.50000 (USD); Mount: Surface Mount; Case/Package: QFN-48; Min Operating Temperature: -40°C; Max Operating Temperature: 85°C; Supplier Part Number 1: 1904-1029-1-ND
footprint ESP32_PICO_D4_2
pins: 1 VDDA, 2 LNA_IN, 3 VDD3P3, 4 VDD3P3, 5 SENSOR_VP, 6 SENSOR_CAPP, 7 SENSOR_CAPN, 8 SENSOR_VN, 9 CHIP_PU, 10 VDET_1, 11 VDET_2, 12 32K_XP, 13 32K_XN, 14 GPIO25, 15 GPIO26, 16 GPIO27, 17 MTMS, 18 MTDI, 19 VDD3P3_RTC, 20 MTCK, 21 MTDO, 22 GPIO2, 23 GPIO0, 24 GPIO4, 25 IO16(FLASH_CS), 26 VDD_SDIO_NC, 27 IO17(FLASH_SD0), 28 (RX) SD_DATA_2/IO9, 29 (TX) SD_DATA_3/IO10, 30 SD_CMD(FLASH_SD2), 31 SD_CLK(FLASH_CLK), 32 SD_DATA_0(FLASH_SD3), 33 SD_DATA_1(FLASH_SD1), 34 GPIO5, 35 GPIO18, 36 GPIO23, 37 VDD3P3_CPU, 38 GPIO19, 39 GPIO22, 40 U0RXD (power), 41 U0TXD (power), 42 GPIO21, 43 VDDA, 44 XTAL_N_NC, 45 XTAL_P_NC, 46 VDDA, 47 CAP2_NC, 48 CAP1_NC, 49 GND (power)

## Ferrite
designator L?, comment Part Number: 2508051217Z0  Manufacturer Part Number: 2508051217Z0  Material: Ferrite  Case/Package: 0805
1 Signal Line Ferrite Bead 0805 300mA 200mOhm; Manufacturer: Fair-Rite; Impedance: 120R; Tolerance: 25%; Shielding: Unshielded; Resistance: 200mR; Current Rating: 250mA; Test Frequency: 100MHz; Outside Diameter: 0.9mm; Supplier 1: Digi-Key; Stock 1: 90447; Pricing 1: 1=0.11, 10=0.091, 25=0.0816, 50=0.0598, 100=0.0517, 250=0.0408, 500=0.0344, 1000=0.029 (USD); Core Material: Ferrite; Case Code (Metric): 2012; Case Code (Imperial): 0805; Min Operating Temperature: -55°C; Max Operating Temperature: 125°C; Package Quantity: 4000; Packaging: Tape and Reel; Max DC Current: 250mA; DC Resistance (DCR): 200mR; Termination: SMD/SMT; DC Current: 250mA; Military Standard: Not; Length: 2mm; Height: 0.9mm; Width: 1.25mm; Depth: 1.25mm; Radiation Hardening: No; REACH SVHC: Unknown; ComponentLink1URL: http://www.farnell.com/datasheets/908867.pdf?src-supplier=Element14; ComponentLink1Description: http://www.farnell.com/datasheets/908867.pdf?src-supplier=Element14; ComponentLink2URL: http://uk.rs-online.com/webdocs/0300/0900766b80300cfe.pdf?src-supplier=RSComponents; ComponentLink2Description: http://uk.rs-online.com/webdocs/0300/0900766b80300cfe.pdf?src-supplier=RSComponents; ComponentLink3URL: http://components.arrow.com/part/dataview/49793984S8790053N4455?src-supplier=Arrow; ComponentLink3Description: http://components.arrow.com/part/dataview/49793984S8790053N4455?src-supplier=Arrow; ComponentLink4URL: https://www.verical.com/server-webapp/html/getDatasheet?partID=253519&src-supplier=Verical; ComponentLink4Description: https://www.verical.com/server-webapp/html/getDatasheet?partID=253519&src-supplier=Verical; Supplier Part Number 1: 1934-1473-1-ND
footprint IND_25_0805
pins: 1, 2

## Ferrite Bead
designator L?  Manufacturer Part Number: LI0805H151R-10  Case/Package: 0805
Ferrite Beads 150ohms 100MHz .8A Monolithic 0805 SMD; Manufacturer: Laird; Impedance: 150R; Max Current Rating: 800mA; Number of Lines: 1; DC Resistance (DCR): 150mR; Supplier 1: Mouser; Stock 1: 0; Mount: Surface Mount; Weight: 0.00392oz; Case Code (Metric): 2012; Case Code (Imperial): 0805; Core Material: Ferrite; Material: Ferrite; Contact Plating: Tin,Matte; Min Operating Temperature: -40°C; Max Operating Temperature: 125°C; Package Quantity: 1; Packaging: Tape and Reel; Max DC Current: 800mA; Termination: SMD/SMT; Test Frequency: 100MHz; Frequency: 100MHz; Length: 2mm; Height: 1.1mm; Width: 0.049inch; Depth: 1.45mm; REACH SVHC: Unknown; Lead Free: Lead Free; ComponentLink1URL: http://www.farnell.com/datasheets/1685938.pdf?src-supplier=Element14; ComponentLink1Description: http://www.farnell.com/datasheets/1685938.pdf?src-supplier=Element14; ComponentLink2URL: https://assets.lairdtech.com/home/brandworld/files/LI0805H151R-10.pdf?src-supplier=Digi-Key; ComponentLink2Description: https://assets.lairdtech.com/home/brandworld/files/LI0805H151R-10.pdf?src-supplier=Digi-Key; ComponentLink3URL: https://www.alliedelec.com/m/d/63159f83fbe70e1160794b0cc8ac128f.pdf?src-supplier=Allied+Electronics; ComponentLink3Description: https://www.alliedelec.com/m/d/63159f83fbe70e1160794b0cc8ac128f.pdf?src-supplier=Allied+Electronics; Supplier Part Number 1: 875-LI0805H151R-10
footprint C0805 (pol cap)
pins: 1, 2

## FR107
designator D?
Rectifiers 1.0 Amp 1000 Volt 150ns; Mfr. No: FR107; Value: Rectifiers 1.0 Amp 1000 Volt 150ns; Package: DO-41
footprint DO-41_VERTICAL (Diode, Axial; Body 5.2 x 2.7 mm (LxDia. max), Lead Dia. 0.86 mm (max))
pins: 1 K, 2 A

## FRC
designator J?
10 Pin FRC Box Header Vertical TH; Case/Package: TH; Manufacturer Part Number: 10 Pin FRC Box Header
footprint FRC_10PIN
pins: 1 3V3, 2 GND, 3 VSYNC, 4 SCL, 5 HREF, 6 SDA, 7 RESET, 8 D0, 9 D1, 10 D2

## FRC_1
designator J?
10 Pin FRC Box Header
footprint FRC_10PIN
pins: 1 3V3, 2 GND, 3 VSYNC, 4 SCL, 5 HREF, 6 SDA, 7 RESET, 8 D0, 9 D1, 10 D2

## FRC_2
designator J?
10 Pin FRC Box Header
footprint FRC_10PIN
pins: 11 D3, 12 D4, 13 D5, 14 D6, 15 D7, 16 PCLK, 17, 18 PWDN, 19, 20

## FS8205A
designator U?  (value not drawn)
Dual N-Channel Mosfet TSSOP-8 (Sunrom:5292); Value: 5.0A; Case/Package: TSSOP-8; Manufacturer Part Number: FS8205A
footprint TSSOP8
pins: 1, 2, 3, 4, 5, 6, 7, 8

## FSM2JSMA
designator S?
Grey Button Tactile Switch, SPST 50 mA 0.71mm Surface Mount; Manufacturer_Name: TE Connectivity; Manufacturer_Part_Number: FSM2JSMA; RS Part Number: 8750595; RS Price/Stock: http://uk.rs-online.com/web/p/products/8750595; Mouser Part Number: 506-FSM2JSMA; Mouser Price/Stock: https://www.mouser.com/Search/Refine.aspx?Keyword=506-FSM2JSMA; Datasheet Link: http://www.te.com/commerce/DocumentDelivery/DDEController?Action=showdoc&DocId=Customer+Drawing%7F2-1437565-7%7FV%7Fpdf%7FEnglish%7FENG_CD_2-1437565-7_V.pdf%7F2-1437565-7
footprint FSM2J
pins: 1, 2, 3, 4

## GDT
designator GT?
pins: 1, 2

## GL823
designator U?
USB 2.0 SD/MMC Card Reader Controller; Manufacturer Part Number: GL823; Case/Package: QFN24; Value: *
pins: 1 SCL, 2 SDA, 3 DM, 4 DP, 5 RREF, 6 AVDD, 7 RSTZ, 8 SD_WP, 9 SD_CDZ, 10 D1, 11 D0, 12 SD_CLK, 13 DVDD, 14 PMOS, 15 GPIO8, 16 SD_CMD, 17 GPIO9, 18 D3, 19 D2, 20 LED, 21 TEST, 22 GPIO3, 23 DVDD, 24 GND, 25 G1
text: Version (A)

## HD3SS3212IRKSR
designator U?
Multiplexer Switch ICs Two Channel Differential 2:1/1:2 USB3.1 Mux/Demux 20-VQFN -40 to 85; Manufacturer 1: Texas Instruments; Manufacturer Part Number 1: HD3SS3212IRKSR; Min Supply Voltage: 3V; Max Supply Voltage: 3.6V; Data Rate: 480Mbps; Number of Ports: 2; Bandwidth: 8GHz; Supplier 1: Digi-Key; RoHS: Yes; Category: Interface ICs; Stock 1: 161; Pricing 1: 1=1.83000, 10=1.64300, 25=1.55000, 100=1.24000, 250=1.08500, 500=1.05400, 1000=0.83700 (USD); Case/Package: VQFN-20; Number of Pins: 20; Min Operating Temperature: -40°C; Max Operating Temperature: 85°C; Packaging: Tape and Reel; USB Standard: USB 3.1; REACH SVHC: No SVHC; Lead Free: Lead Free; ComponentLink1URL: http://www.ti.com/general/docs/lit/getliterature.tsp?genericPartNumber=HD3SS3212&&fileType=pdf&src-supplier=Farnell; ComponentLink1Description: http://www.ti.com/general/docs/lit/getliterature.tsp?genericPartNumber=HD3SS3212&&fileType=pdf&src-supplier=Farnell; ComponentLink2URL: http://www.ti.com/lit/ds/symlink/hd3ss3212.pdf?src-supplier=Digi-Key; ComponentLink2Description: http://www.ti.com/lit/ds/symlink/hd3ss3212.pdf?src-supplier=Digi-Key; ComponentLink3URL: http://www.ti.com/lit/gpn/hd3ss3212?src-supplier=Mouser; ComponentLink3Description: http://www.ti.com/lit/gpn/hd3ss3212?src-supplier=Mouser; ComponentLink4URL: http://www.ti.com/general/docs/lit/getliterature.tsp?genericPartNumber=HD3SS3212&&fileType=pdf&src-supplier=Element14; ComponentLink4Description: http://www.ti.com/general/docs/lit/getliterature.tsp?genericPartNumber=HD3SS3212&&fileType=pdf&src-supplier=Element14; Supplier Part Number 1: 296-42306-1-ND
footprint VQFN-20
pins: 1 RSVD1 (out), 2 OEN (in), 3 A0P (io), 4 A0N (io), 5 GND (power), 6 VCC (power), 7 A1P (io), 8 A1N (io), 9 SEL (in), 10 RSVD2 (out), 11 GND (power), 12 C1N (io), 13 C1P (io), 14 C0N (io), 15 C0P (io), 16 B1N (io), 17 B1P (io), 18 B0N (io), 19 B0P (io), 20 GND (power), 21 EXP (power)

## HDS20M-13
designator R1
footprint HDS20M-13 (Bridge Rectifiers Bridge Rectifier HDS)
pins: 1 +, 2 ~, 3 -, 4 ~

## Header 2 pin
designator J?
pins: 1, 2

## Header 3 pin
designator J?
pins: 1, 2, 3

## HEADER 4
designator J?, comment HEADER  (value not drawn)
pins: 1, 2, 3, 4

## Header 5
designator J?
Header, 5-Pin; LatestRevisionDate: 17-Jul-2002; LatestRevisionNote: Re-released for DXP Platform.; Publisher: Altium Limited
footprint HDR1X5 (Connector; Header; 5 Position)
signal-integrity model Connector
pins: 1, 2, 3, 4, 5

## HEADER 6
designator J?
pins: 1, 2, 3, 4, 5 4, 6

## HEADER 7
designator J?
mm PITCH HEADER, 7PIN; Case/Package: TH; Manufacturer Part Number: mm PITCH HEADER, 7PIN
pins: 1, 2, 3, 4, 5 4, 6, 7

## HEADER 20 PIN
designator J?  (value not drawn)
pins: 1, 2, 3, 4, 5, 6, 7, 8, 9, 10, 11, 12, 13, 14, 15, 16, 17, 18, 19, 20

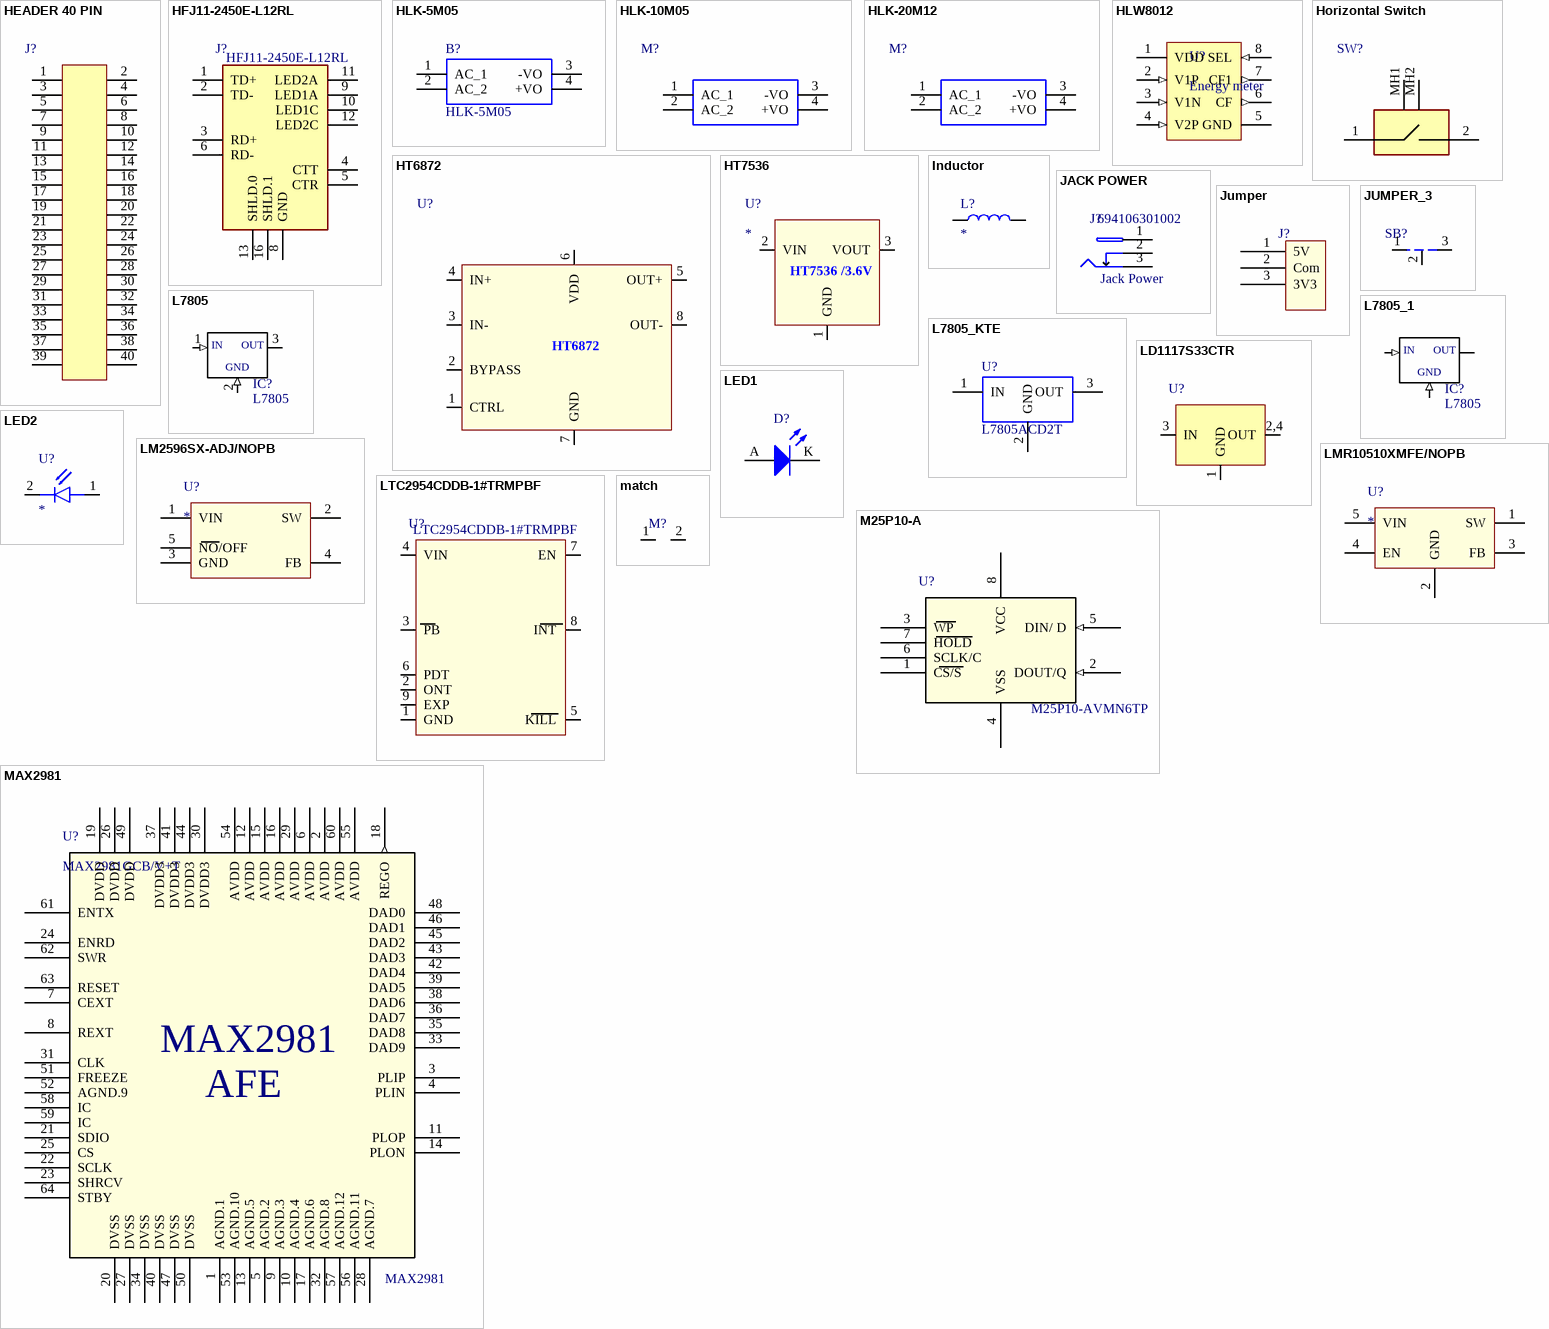
[diagram p2: symbols HEADER 40 PIN to MAX2981]

## HEADER 40 PIN
designator J?  (value not drawn)
pins: 1, 2, 3, 4, 5, 6, 7, 8, 9, 10, 11, 12, 13, 14, 15, 16, 17, 18, 19, 20, 21, 22, 23, 24, 25, 26, 27, 28, 29, 30, 31, 32, 33, 34, 35, 36, 37, 38, 39, 40

## HFJ11-2450E-L12RL
designator J?  Manufacturer Part Number: HFJ11-2450E-L12RL
Modular Connectors / Ethernet Connectors 10/100 1x1 Tab Down RJ45 w/mag G/Y LED; Manufacturer: HALO; Gender: Female; Connector Type: RJ45,Socket; Number of Positions Loaded: 8; Number of Ports: 1; Pitch: 2.54mm; Supplier 1: Mouser; Stock 1: 1298; Pricing 1: 1=8.95, 10=8.95, 50=5.36, 100=4.47, 1000=2.68, 10000=2.68 (USD); Mount: Through Hole; Contact Plating: Gold; Contact Material: Ferrite; Packaging: Rail/Tube; Number of Contacts: 8; Termination: Solder; Number of Positions: 8; Orientation: Right Angle; Length: 15.88mm; Depth: 21.59mm; Radiation Hardening: No; Lead Free: Lead Free; ComponentLink1URL: http://www.haloelectronics.com/pdf/fastjack-100baset.pdf?src-supplier=Avnet+Europe; ComponentLink1Description: http://www.haloelectronics.com/pdf/fastjack-100baset.pdf?src-supplier=Avnet+Europe; ComponentLink2URL: https://www.verical.com/server-webapp/html/getDatasheet?partID=566425&src-supplier=Verical; ComponentLink2Description: https://www.verical.com/server-webapp/html/getDatasheet?partID=566425&src-supplier=Verical; ComponentLink3URL: http://www.haloelectronics.com/pdf/fastjack-10-100-tx.pdf?src-supplier=Future+Electronics; ComponentLink3Description: http://www.haloelectronics.com/pdf/fastjack-10-100-tx.pdf?src-supplier=Future+Electronics; ComponentLink4URL: http://uk.rs-online.com/webdocs/106e/0900766b8106e817.pdf?src-supplier=RSComponents; ComponentLink4Description: http://uk.rs-online.com/webdocs/106e/0900766b8106e817.pdf?src-supplier=RSComponents; ComponentLink5URL: http://www.haloelectronics.com/pdf/fastjack-10-100-tx.pdf?src-supplier=Avnet; ComponentLink5Description: http://www.haloelectronics.com/pdf/fastjack-10-100-tx.pdf?src-supplier=Avnet; Supplier Part Number 1: 493-HFJ112450EL12RL
footprint HFJ11-2450E-L11RL
pins: 1 TD+, 2 TD-, 3 RD+, 4 CTT, 5 CTR, 6 RD-, 8 GND, 9 LED1A, 10 LED1C, 11 LED2A, 12 LED2C, 13 SHLD.0, 16 SHLD.1

## HLK-5M05
designator B?
5W ultra-compact power module HLK-5M05; Manufacturer_Name: Hi-Link; Geometry.Height: 18mm; Manufacturer_Part_Number: HLK-5M05; RS Part Number: *; RS Price/Stock: *; Mouser Part Number: *; Mouser Price/Stock: *; Datasheet Link: https://hacktronics.co.in/step-down-power-supply/ac-dc-220v-ac-to-5v-dc-5w-pcb-mounted-plastics-enclosed-isolated-switching-step-down-power-supply-module
footprint es1a
pins: 1 AC_1, 2 AC_2, 3 -VO, 4 +VO

## HLK-10M05
designator M?  (value not drawn)
pins: 1 AC_1, 2 AC_2, 3 -VO, 4 +VO

## HLK-20M12
designator M?  (value not drawn)
Manufacturer Part Number: HLK-20M12; Case/Package: TH
pins: 1 AC_1, 2 AC_2, 3 -VO, 4 +VO

## HLW8012
designator U?, comment Energy meter
pins: 1 VDD (power), 2 V1P (in), 3 V1N (in), 4 V2P (in), 5 GND (power), 6 CF (out), 7 CF1 (out), 8 SEL (in)

## Horizontal Switch
designator SW?  (value not drawn)
footprint vertical pushbutton - duplicate
pins: 1, 2, MH1, MH2

## HT6872
designator U?
pins: 1 CTRL, 2 BYPASS, 3 IN-, 4 IN+, 5 OUT+, 6 VDD, 7 GND, 8 OUT-

## HT7536
designator U?
pins: 1 GND, 2 VIN, 3 VOUT
text: HT7536 /3.6V

## Inductor
designator L?
pins: 1, 2